# EAGLE library part REGULATOR (library DEEP_MainBoard)
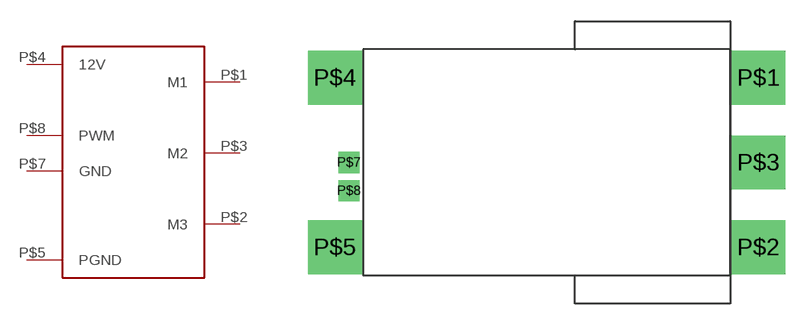
[diagram p7: symbol with the pads of REGULATOR; footprint REGULATOR]

Designator prefix -

## REGULATOR  [REGULATOR]
P$1  M1
P$2  M3
P$3  M2
P$4  12V
P$5  PGND
P$7  GND
P$8  PWM

## Footprint REGULATOR (pad centres in mm)
drill 1 pad 3.81 square: P$1 28,14; P$2 28,2; P$3 28,8; P$4 -2,14; P$5 -2,2
drill 1 pad 1.27 square: P$7 -1,8; P$8 -1,6